# Altium schematic symbol library EL-sense_Flip-Flops.SchLib: 4 symbols
Pins are listed as number, name and electrical type; pins without a type are passive.

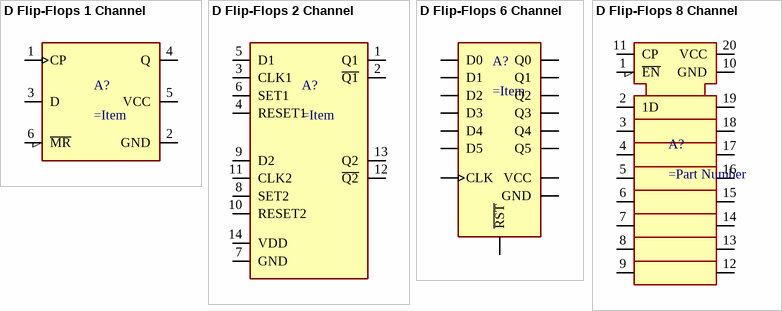
[diagram p0: symbols D Flip-Flops 1 Channel to D Flip-Flops 8 Channel]

## D Flip-Flops 1 Channel
designator A?
pins: 1 CP, 2 GND, 3 D, 4 Q, 5 VCC, 6 ~{MR}

## D Flip-Flops 2 Channel
designator A?
pins: 1 Q1, 2 ~{Q1}, 3 CLK1, 4 RESET1, 5 D1, 6 SET1, 7 GND, 8 SET2, 9 D2, 10 RESET2, 11 CLK2, 12 ~{Q2}, 13 Q2, 14 VDD

## D Flip-Flops 6 Channel
designator A?
pins: \R\S\T\, CLK, D0, D1, D2, D3, D4, D5, GND, Q0, Q1, Q2, Q3, Q4, Q5, VCC

## D Flip-Flops 8 Channel
designator A?
pins: 1 ~{EN}, 2 1D, 3 2D, 4 3D, 5 4D, 6 5D, 7 6D, 8 7D, 9 8D, 10 GND, 11 CP, 12 8Q, 13 7Q, 14 6Q, 15 5Q, 16 4Q, 17 3Q, 18 2Q, 19 1Q, 20 VCC